# Altium footprint library LM5155DSSR.PcbLib: 1 footprints
Each footprint in its own frame and in the unit in brackets; x right, y up, seen from the top. Pads: shape width x height; smd on the part's side, far side on the other; paste and mask are expansions set on the pad; w line width, h text height; cw(c..) or ccw(c..) is an arc to the next point about the centre after c.
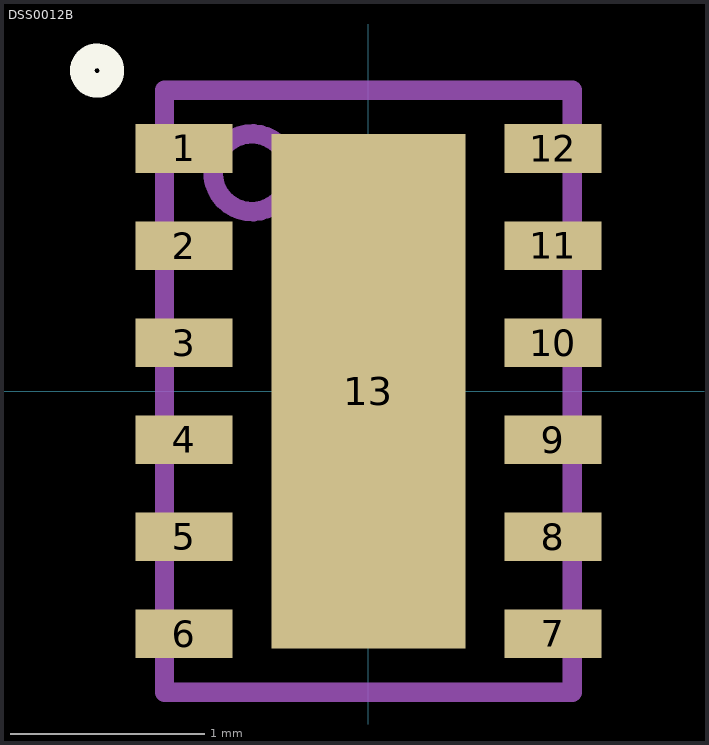
[diagram p0: the footprint, top view; thin cyan lines are the x and y axes]

## DSS0012B [mm]
pads (13):
  rect 0.5x0.25 smd paste+0 mask+0.05: 1(-0.95,1.25) 2(-0.95,0.75) 3(-0.95,0.25) 4(-0.95,-0.25) 5(-0.95,-0.75) 6(-0.95,-1.25) 7(0.95,-1.25) 8(0.95,-0.75) 9(0.95,-0.25) 10(0.95,0.25) 11(0.95,0.75) 12(0.95,1.25)
  rect 1x2.65 smd paste-0.5 mask+0: 13(0,0)
Top Overlay:
  circle w0.127: c-1.397,1.651 r0.076
Top Paste:
  region: -0.425,-0.1 -0.475,-0.15 -0.475,-1.22 -0.425,-1.27 0.425,-1.27 0.475,-1.22 0.475,-0.15 0.425,-0.1
  region: -0.425,0.1 -0.475,0.15 -0.475,1.22 -0.425,1.27 0.425,1.27 0.475,1.22 0.475,0.15 0.425,0.1
Mechanical 13:
  circle w0.1: c-0.6,1.125 r0.2
  lines w0.1: -1.05,-1.55 -1.05,1.55 1.05,1.55 1.05,-1.55 -1.05,-1.55